# EAGLE library part LM2575-5.0 (library My Library)
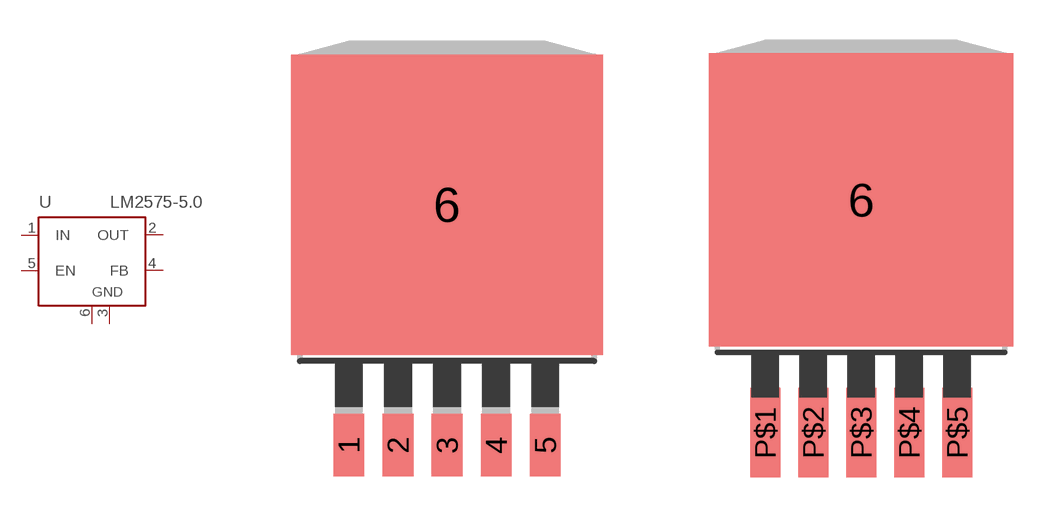
[diagram p9: symbol with the pads of TO263-5; footprints TO263-5, TO263ACTUAL!]

Designator prefix -

## LM2575-5.0TO263-5  [TO263-5]
1  IN  in
2  OUT  out
3  GND  pwr
4  FB  in
5  EN  in
6  GND  pwr

## LM2575-5.0  [TO263ACTUAL!]
6  GND  pwr
P$1  IN  in
P$2  OUT  out
P$3  GND  pwr
P$4  FB  in
P$5  EN  in

## Footprint TO263-5 (pad centres in mm)
TO-263
smd 1.067 x 2.159: 1 -3.404,-5.791; 2 -1.702,-5.791; 3 0,-5.791; 4 1.702,-5.791; 5 3.404,-5.791
smd 10.8 x 10.41: 6 0,2.54

## Footprint TO263ACTUAL! (pad centres in mm)
smd 10.8 x 10.41: 6 0,1.27
smd 1.067 x 3.175: P$1 -3.404,-6.985; P$2 -1.702,-6.985; P$3 0,-6.985; P$4 1.702,-6.985; P$5 3.404,-6.985